# Altium schematic symbol library MedEngineSchematicLib.SchLib: 48 symbols
Pins are listed as number, name and electrical type; pins without a type are passive.

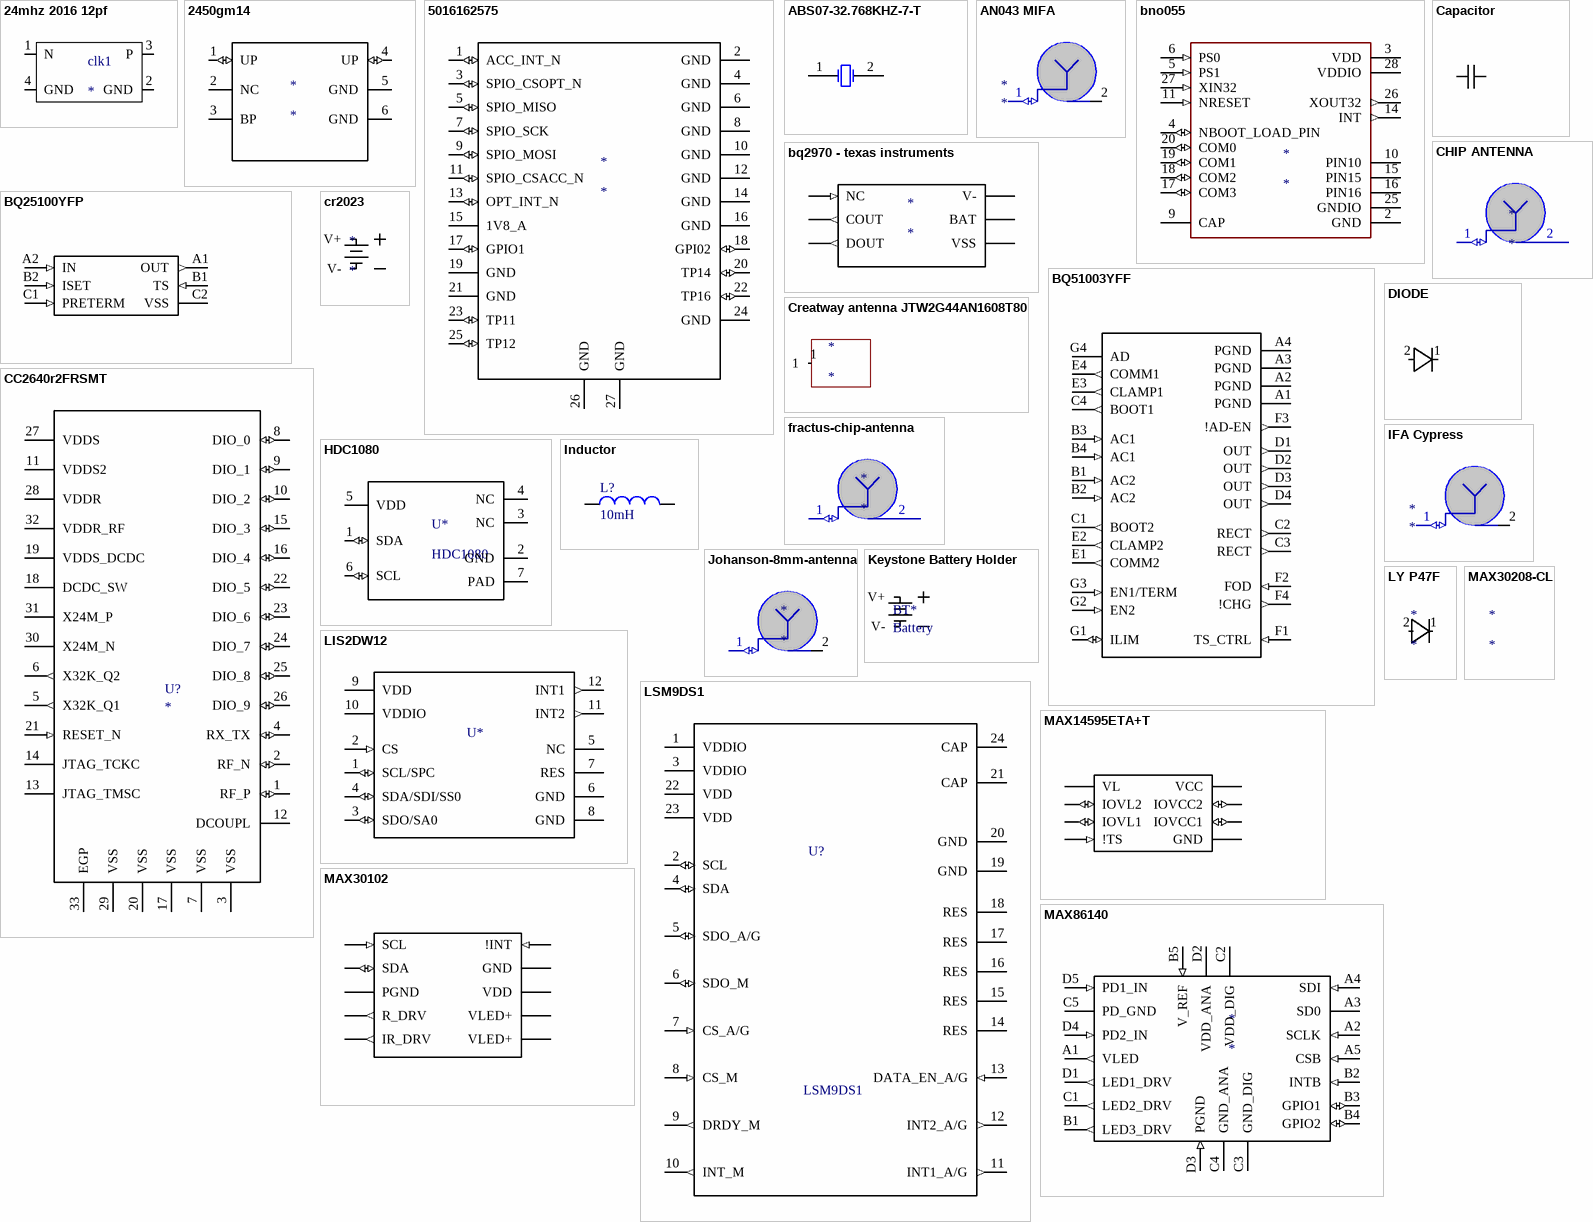
[diagram p0: symbols 24mhz 2016 12pf to MAX86140]

## 24mhz 2016 12pf
designator clk1
footprint 24mhz creatway clock
pins: 1 N, 2 GND, 3 P, 4 GND

## 2450gm14
designator *
filter and impedance matcher -johanson
footprint 2450BM1
pins: 1 UP (io), 2 NC (power), 3 BP, 4 UP (io), 5 GND (power), 6 GND (power) "SCL"

## 5016162575
designator *
MOLEX CONNECTOR
footprint MOLEX BREAKER
pins: 1 ACC_INT_N (io), 2 GND (power), 3 SPIO_CSOPT_N (io), 4 GND (power), 5 SPIO_MISO (io), 6 GND (power), 7 SPIO_SCK (io), 8 GND (power), 9 SPIO_MOSI (io), 10 GND (power), 11 SPIO_CSACC_N (io), 12 GND (power), 13 OPT_INT_N (io), 14 GND (power), 15 1V8_A (power), 16 GND (power), 17 GPIO1 (io), 18 GPI02 (io), 19 GND (power), 20 TP14 (io), 21 GND (power), 22 TP16 (io), 23 TP11 (io), 24 GND (power), 25 TP12 (io), 26 GND (power), 27 GND (power)

## ABS07-32.768KHZ-7-T
designator ?
32 kHz
footprint ABS07 (32.768kHz Crystal)
pins: 1 OSC1, 2 OSC2

## AN043 MIFA
designator *
footprint AN043 MIFA
pins: 1 FEED1 (io), 2 (power)

## bno055
designator *
footprint bno055
pins: 2 GND (power), 3 VDD (power), 4 NBOOT_LOAD_PIN (io), 5 PS1 (in), 6 PS0 (in), 9 CAP, 10 PIN10 (power), 11 NRESET (in), 14 INT (out), 15 PIN15 (power), 16 PIN16 (power), 17 COM3 (io), 18 COM2 (io), 19 COM1 (io), 20 COM0 (io), 25 GNDIO (power), 26 XOUT32 (out), 27 XIN32 (in), 28 VDDIO (power)

## bq2970 - texas instruments
designator *
Battery protection IC for 1-cell pack
footprint BQ2970 (PCM FOR LIP)
pins: 1 NC (in), 2 COUT (out), 3 DOUT (out), 4 VSS (power), 5 BAT (power), 6 V- (power)

## BQ25100YFP
designator ?
BQ25100YFP
footprint DSBGA6
pins: A1 OUT (out), A2 IN (in), B1 TS (in), B2 ISET (in), C1 PRETERM (in), C2 VSS (power)

## BQ51003YFF
designator ?
BQ51003YFF
footprint R-XBGA-28
pins: A1 PGND (power), A2 PGND (power), A3 PGND (power), A4 PGND (power), B1 AC2 (in), B2 AC2 (in), B3 AC1 (in), B4 AC1 (in), C1 BOOT2 (out), C2 RECT (out), C3 RECT (out), C4 BOOT1 (out), D1 OUT (out), D2 OUT (out), D3 OUT (out), D4 OUT (out), E1 COMM2 (out), E2 CLAMP2 (out), E3 CLAMP1 (out), E4 COMM1 (out), F1 TS_CTRL (in), F2 FOD (in), F3 !AD-EN (out), F4 !CHG (out), G1 ILIM (io), G2 EN2 (in), G3 EN1/TERM (in), G4 AD (power)

## Capacitor
designator C?
Ceramic chip capacitor; Value: *
simulation model CAP (Default semiconductor capacitor)
footprint Passive (0402, 1005)
footprint Passive (0603, 1608)
footprint PASSIVE (0201, 0603)
pins: 1, 2

## CC2640r2FRSMT
designator U?
CC26xx; PartNumber: CC2650F128RSMT; Manufacturer: Texas Instruments; CompType: IC; PIN_COUNT: 33; Application_BuildNumber: *; Alternate PartNumber: CC2650F128RSMT; PackageReference: RSM0032B; MountType: SMT; RoHS: Y; RefDes: RefDes; Type: DEV
footprint RSM0032B
pins: 1 RF_P (io), 2 RF_N (io), 3 VSS (power), 4 RX_TX (io), 5 X32K_Q1 (out), 6 X32K_Q2 (out), 7 VSS (power), 8 DIO_0 (io), 9 DIO_1 (io), 10 DIO_2 (io), 11 VDDS2 (power), 12 DCOUPL, 13 JTAG_TMSC, 14 JTAG_TCKC, 15 DIO_3 (io), 16 DIO_4 (io), 17 VSS (power), 18 DCDC_SW (power), 19 VDDS_DCDC (power), 20 VSS (power), 21 RESET_N (in), 22 DIO_5 (io), 23 DIO_6 (io), 24 DIO_7 (io), 25 DIO_8 (io), 26 DIO_9 (io), 27 VDDS (power), 28 VDDR (power), 29 VSS (power), 30 X24M_N, 31 X24M_P, 32 VDDR_RF (power), 33 EGP (power)

## CHIP ANTENNA
designator *
MOLEX CHIP ANTENNA
footprint MOLEX ANTENNA (CHIP ANTENNA)
pins: 1 FEED1 (io), 2 GND (power)

## cr2023
designator *
BATTERY HOLDER
footprint CR2032 COIL CELL BATTERY HOLDER
pins: 1 V+ (power), 2 V- (power)

## Creatway antenna JTW2G44AN1608T80
designator *
footprint JTW2G44AN1608T80 (creatway)
pins: 1

## DIODE
designator ?
VLMW1500
footprint Diode (VLMW1500)
pins: 1, 2

## fractus-chip-antenna
designator *
fractus ti chip antenna
footprint fractus-chip-antenna
pins: 1 FEED1 (io), 2 GND (power)

## HDC1080
designator U*
HUMIDITY AND TEMPERATURE SENSOR, HDC1080
footprint WSON (WSON 7)
pins: 1 SDA (io), 2 GND (power), 3 NC, 4 NC, 5 VDD (power), 6 SCL (io), 7 PAD

## IFA Cypress
designator *
footprint IFA Cypress
pins: 1 FEED1 (io), 2 (power)

## Inductor
designator L?, comment 10mH
Inductor; Code_IEC: 1005; Published: 8-Jun-2000; LatestRevisionDate: 29-May-2009; LatestRevisionNote: IPC-7351 Footprint Added.; PackageReference: 0402-A; Publisher: Altium Limited; PackageDescription: Chip Inductor; Code_JEITA: 0402; Value: 10mH
simulation model INDUCTOR (Inductor)
signal-integrity model Inductor
footprint Passive (0603, 1608)
pins: 1, 2

## Johanson-8mm-antenna
designator *
footprint Johanson-antenna-8mm
pins: 1 FEED1 (io), 2 (power)

## Keystone Battery Holder
designator BT*, comment Battery
Keystone coin cell battery holder
footprint battery
pins: 1 V+, 2 V-

## LIS2DW12
designator U*  (value not drawn)
ACCELEROMETER
footprint LIS2DW12 (ACCELEROMETER)
pins: 1 SCL/SPC (io), 2 CS (in) "Chip select - active high", 3 SDO/SA0 (io), 4 SDA/SDI/SS0 (io), 5 NC (power), 6 GND (power), 7 RES (power), 8 GND (power), 9 VDD (power), 10 VDDIO (power), 11 INT2 (out), 12 INT1 (out)

## LSM9DS1
designator U?
9DOF, Accel, Gyro, Mag; MF: Microchip; MP: MCP73871-3CAI/ML; Availability: Good; Package: QFN-20 Microchip; Price: 1.56 USD; Value: *
footprint LSM9DS1 (LGA 24 Pin)
pins: 1 VDDIO (power), 2 SCL (io), 3 VDDIO (power), 4 SDA (io), 5 SDO_A/G (io), 6 SDO_M (io), 7 CS_A/G (in), 8 CS_M (in), 9 DRDY_M (out), 10 INT_M (out), 11 INT1_A/G (out), 12 INT2_A/G (out), 13 DATA_EN_A/G (in), 14 RES, 15 RES, 16 RES, 17 RES, 18 RES, 19 GND, 20 GND, 21 CAP, 22 VDD, 23 VDD, 24 CAP

## LY P47F
designator *
Osram LED
footprint OSRAM (LT-P4SG)
pins: 1, 2

## MAX14595ETA+T
designator ?
MAX14595ETA+T
footprint 8TDFN (For MAX14595 (land pattern 90-0349))
pins: 1 VL (power), 2 IOVL2 (io), 3 IOVL1 (io), 4 !TS (in), 5 GND (power), 6 IOVCC1 (io), 7 IOVCC2 (io), 8 VCC (power)

## MAX30102
designator ?
MAX30102
footprint MAX30102
pins: 2 SCL (in), 3 SDA (io), 4 PGND (power), 5 R_DRV (out), 6 IR_DRV (out), 9 VLED+ (power), 10 VLED+ (power), 11 VDD (power), 12 GND (power), 13 !INT (in)

## MAX30208-CL
designator *

## MAX86140
designator *
footprint MAX86140
pins: A1 VLED (out), A2 SCLK (in), A3 SD0 (power), A4 SDI (in), A5 CSB (in), B1 LED3_DRV (out), B2 INTB (in), B3 GPIO1 (io), B4 GPIO2 (io), B5 V_REF (in), C1 LED2_DRV (out), C2 VDD_DIG (power), C3 GND_DIG (power), C4 GND_ANA (power) "C4", C5 PD_GND (power), D1 LED1_DRV (out), D2 VDD_ANA (power), D3 PGND (in), D4 PD2_IN (in), D5 PD1_IN (in)

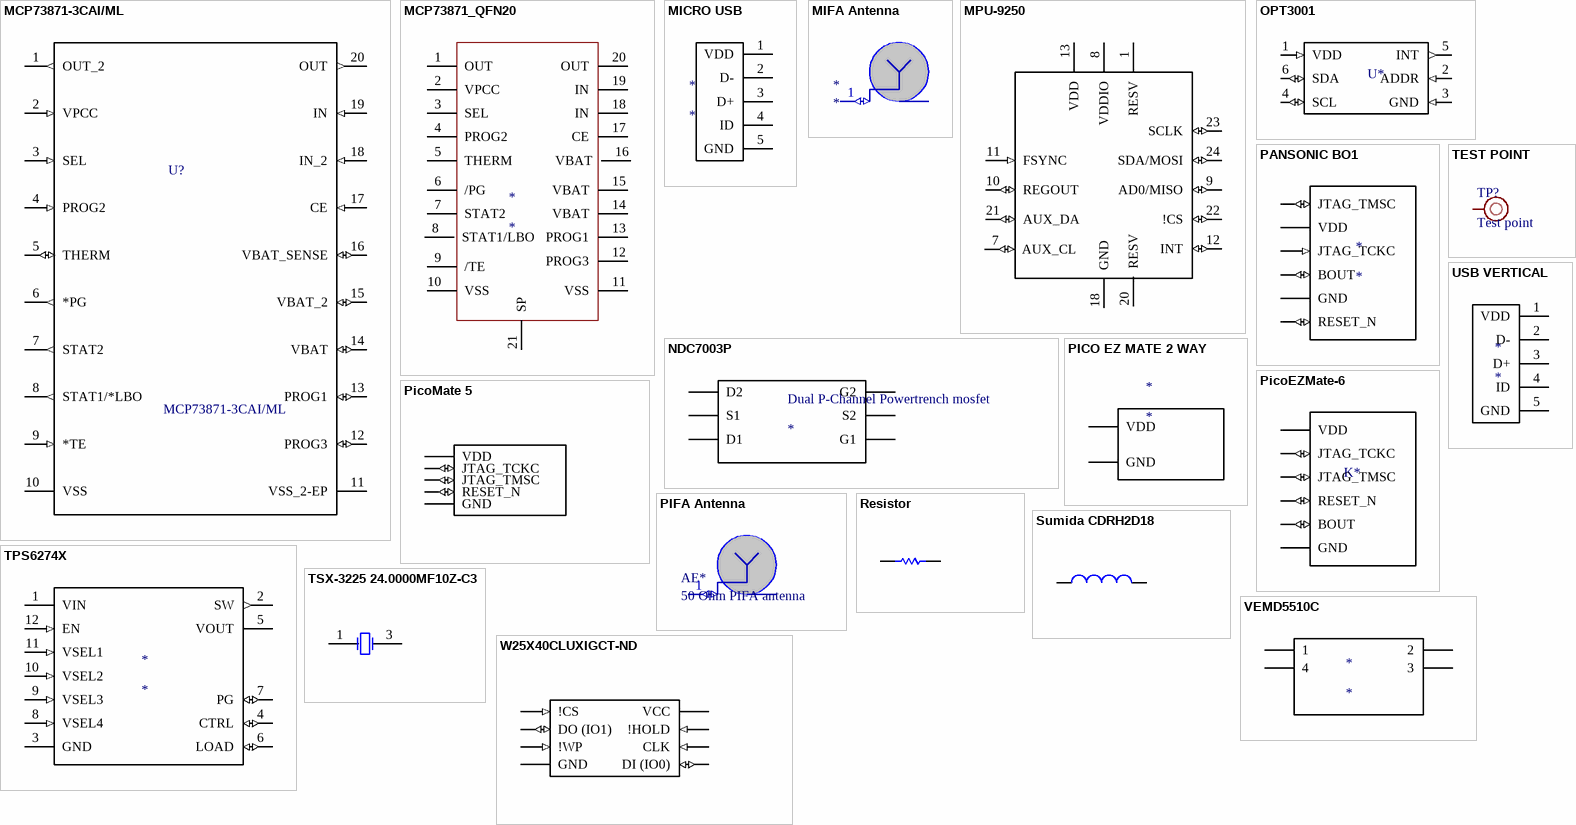
[diagram p1: symbols MCP73871-3CAI/ML to W25X40CLUXIGCT-ND]

## MCP73871-3CAI/ML
designator U?
IC USB/AC BATT CHRGR W/PPM 20QFN; MF: Microchip; Availability: Good; Package: QFN-20 Microchip; Price: 1.56 USD; MP: MCP73871-3CAI/ML; Value: *
footprint QFN50P400X400X100-21N
pins: 1 OUT_2 (out), 2 VPCC (in), 3 SEL (in), 4 PROG2 (in), 5 THERM (io), 6 *PG (out), 7 STAT2 (out), 8 STAT1/*LBO (out), 9 *TE (in), 10 VSS (power), 11 VSS_2-EP (power), 12 PROG3 (io), 13 PROG1 (io), 14 VBAT (io), 15 VBAT_2 (io), 16 VBAT_SENSE (io), 17 CE (in), 18 IN_2 (in), 19 IN (in), 20 OUT (out)

## MCP73871_QFN20
designator *
BATTERY MANAGEMENT
pins: 1 OUT, 2 VPCC, 3 SEL, 4 PROG2, 5 THERM, 6 /PG, 7 STAT2, 8 STAT1/LBO, 9 /TE, 10 VSS, 11 VSS, 12 PROG3, 13 PROG1, 14 VBAT, 15 VBAT, 16 VBAT, 17 CE, 18 IN, 19 IN, 20 OUT, 21 SP

## MICRO USB
designator *
footprint STEP FILE
pins: 1 VDD (power), 2 D- (power), 3 D+ (power), 4 ID (power), 5 GND

## MIFA Antenna
designator *
footprint MIFA
pins: 1 FEED1 (io)

## MPU-9250
designator U?  (value not drawn)
Value: *
footprint MPU-9250 (QFN-24) (MPU 9250 QFN 24)
pins: 1 RESV (power), 7 AUX_CL (io), 8 VDDIO (power), 9 AD0/MISO (io), 10 REGOUT (io), 11 FSYNC (in), 12 INT (io), 13 VDD (power), 18 GND, 20 RESV, 21 AUX_DA (io), 22 !CS (io), 23 SCLK (io), 24 SDA/MOSI (io)

## NDC7003P
designator Dual P-Channel Powertrench mosfet
Dual P-Channel Powertrench mosfet
footprint NDC7003P (DUAL MOSFETS)
pins: 1 G1 (power), 2 S2 (power), 3 G2 (power), 4 D2 (power), 5 S1 (power), 6 D1 (power)

## OPT3001
designator U*  (value not drawn)
AMBIENT LIGHT SENSOR
footprint USON6 (USON)
pins: 1 VDD (in), 2 ADDR (in), 3 GND (in), 4 SCL (io), 5 INT (out), 6 SDA (io)

## PANSONIC BO1
designator *
footprint PANASONIC BO1
pins: 1 JTAG_TMSC (io), 2 VDD (power), 3 JTAG_TCKC (in), 4 BOUT (io), 5 GND (power), 6 RESET_N (io)

## PICO EZ MATE 2 WAY
designator *
footprint PicoMate-2-78171-0002 (PicoMate 2 way header)
pins: 1 VDD (power), 2 GND (power)

## PicoEZMate-6
designator K*  (value not drawn)
Pico EZ Mate 6
footprint 78171-0006
pins: 1 VDD (power), 2 JTAG_TCKC (io), 3 JTAG_TMSC (io), 4 RESET_N (io), 5 BOUT (io), 6 GND (power)

## PicoMate 5
designator ?
PicoMate 5
footprint 78171-0005 (PicoMate 5 way header)
pins: 1 VDD (power), 2 JTAG_TCKC (io), 3 JTAG_TMSC (io), 4 RESET_N (io), 5 GND (power)

## PIFA Antenna
designator AE*, comment 50 Ohm PIFA antenna  (net tie, no BOM)
PIFA antenna
footprint PIFA Antenna (PIFA Antenna 50 ohm (27mm x 8mm))
pins: 1 FEED1 (io), 2 GND hidden to GND

## Resistor
designator R?
Resistor; Value: *
footprint Passive (0402, 1005)
footprint Passive (0603, 1608)
footprint PASSIVE (0201, 0603)
pins: 1, 2

## Sumida CDRH2D18
designator ?
Sumida CDRH2D18
footprint Sumida CDRH2D18
pins: 1, 2

## TEST POINT
designator TP?, comment Test point
Value: Test point
footprint Test Point 1 (1mm  Test Point)
pins: 1 0

## TPS6274X
designator *
Step down converter
footprint TPS6274 (STEP DOWN CONVERTER)
pins: 1 VIN (power), 2 SW (out) "Chip select - active high", 3 GND (power), 4 CTRL (io), 5 VOUT (power), 6 LOAD (io), 7 PG (io), 8 VSEL4 (in), 9 VSEL3 (in), 10 VSEL2 (in), 11 VSEL1 (in), 12 EN (in)

## TSX-3225 24.0000MF10Z-C3
designator ?
24 MHz
footprint TSX-3225 (Epson TSX-3225 24MHz Crystal)
pins: 1 OSC1, 3 OSC2

## USB VERTICAL
designator *
pins: 1 VDD (power), 2 D- (power), 3 D+ (power), 4 ID (power), 5 GND

## VEMD5510C
designator *
footprint VEMD5510C (SILICON PIN PHOTODIODE)
pins: 1 (power), 2 (power), 3 (power), 4 (power)

## W25X40CLUXIGCT-ND
designator ?
W25X40CLUXIGCT-ND
footprint USON 2x3 (For Winbond W25X40CLUXIGCT-ND)
pins: 1 !CS (in), 2 DO (IO1) (io), 3 !WP (in), 4 GND (power), 5 DI (IO0) (io), 6 CLK (in), 7 !HOLD (in), 8 VCC (power)